# Altium footprint library footprints.PcbLib: 26 footprints (part 2 of 2)
Each footprint in its own frame and in the unit in brackets; x right, y up, seen from the top. Pads: shape width x height; smd on the part's side, far side on the other; paste and mask are expansions set on the pad; w line width, h text height; cw(c..) or ccw(c..) is an arc to the next point about the centre after c.
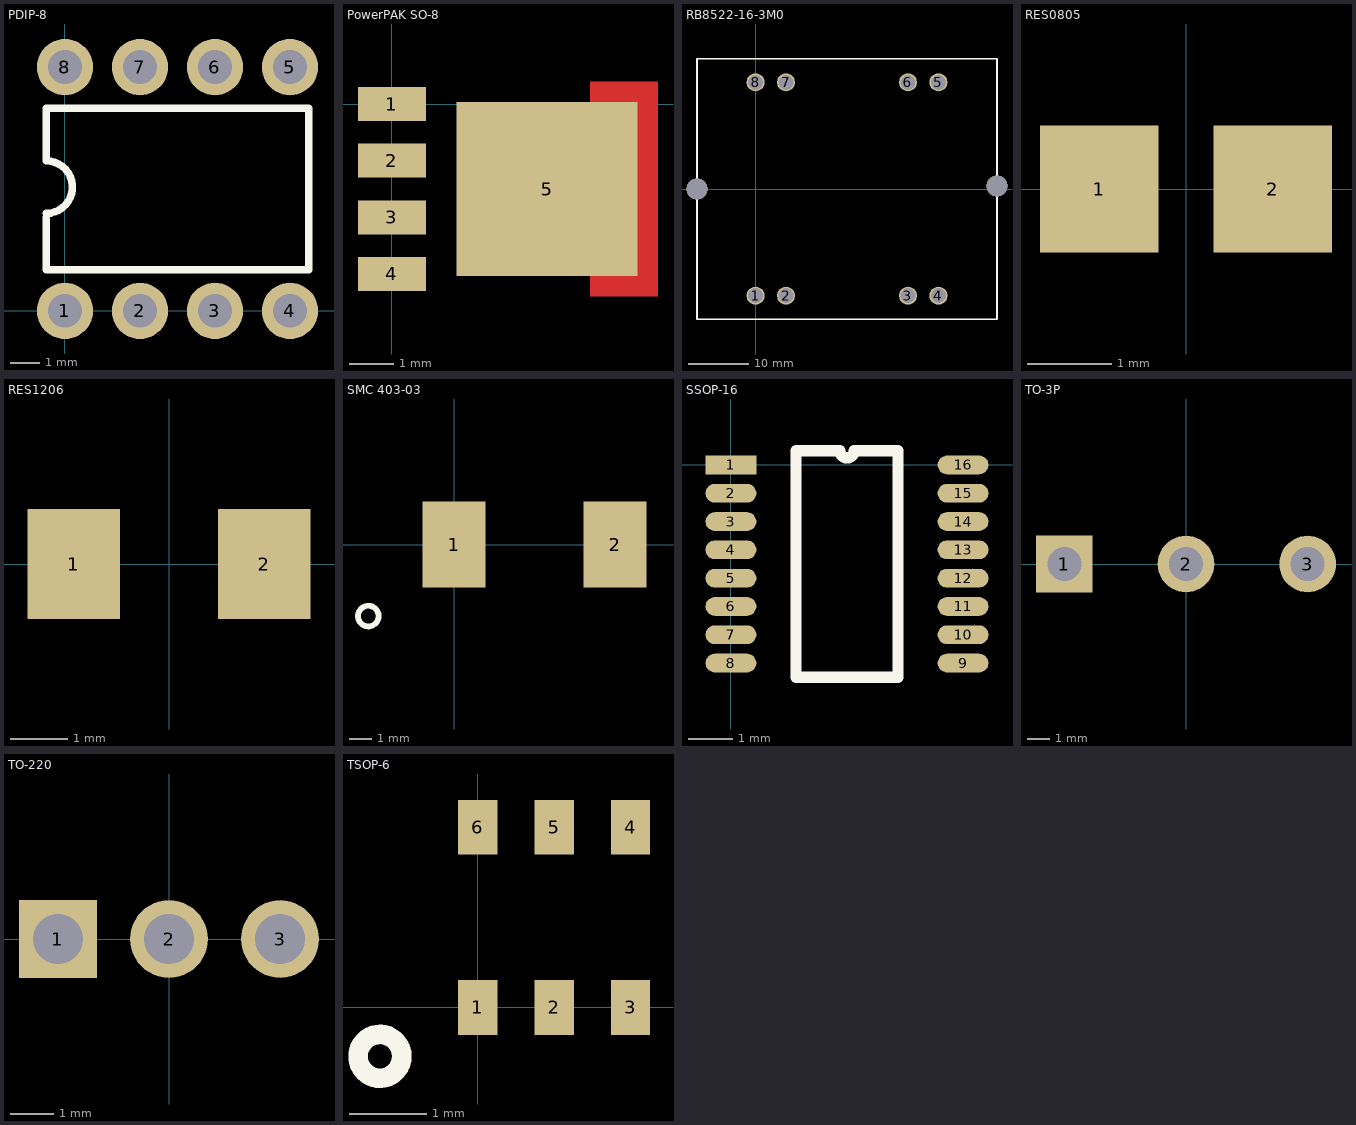
[diagram p1: the footprints below, top view; thin cyan lines are the x and y axes]

## PDIP-8 [mil]
height 210
pads (8):
  round 75 hole 45: 1(0,0) 2(100,0) 3(200,0) 4(300,0) 5(300,325) 6(200,325) 7(100,325) 8(0,325)
Top Overlay:
  lines w10: -25,125 -25,115 -25,55 325,55 325,270 -25,270 -25,200 cw(c-25,165) -25,130

## PowerPAK SO-8 [mil]
height 44
pads (5):
  rect 60x30 smd: 1(0,0) 2(0,-50) 3(0,-100) 4(0,-150)
  rect 160x154 smd: 5(137,-75)
Top Layer:
  rectangle: 175,-170 235,20

## RB8522-16-3M0 [mm] "Size 4"
height 58
pads (8):
  round 3 hole 2.5: 1(0,-17.78) 2(5.08,-17.78) 3(25.4,-17.78) 4(30.48,-17.78) 5(30.48,17.78) 6(25.4,17.78) 7(5.08,17.78) 8(0,17.78)
via -9.76,0 diameter 3.5 hole 3.5
via 40.24,0.508 diameter 3.5 hole 3.5
Top Overlay:
  lines w0.254: -9.76,-21.7 -9.76,21.7 40.24,21.7 40.24,-21.7 -9.76,-21.7

## RES0805 [mm]
pads (2):
  rect 1.4x1.5 smd: 1(-1.025,0) 2(1.025,0)

## RES1206 [mm]
pads (2):
  rect 1.6x1.9 smd: 1(-1.65,0) 2(1.65,0)

## SMC 403-03 [mil]
height 95
pads (2):
  rect 110x150 smd: 1(0,0) 2(281,0)
Top Overlay:
  circle w10: c-150,-125 r18.03

## SSOP-16 [mil]
pads (16):
  rect 45x16.5 smd: 1(0,0)
  oval 45x16.5 smd: 2(0,-25) 3(0,-50) 4(0,-75) 5(0,-100) 6(0,-125) 7(0,-150) 8(0,-175) 9(205,-175) 10(205,-150) 11(205,-125) 12(205,-100) 13(205,-75) 14(205,-50) 15(205,-25) 16(205,0)
Top Overlay:
  lines w10: 57.5,-187.5 147.5,-187.5 147.5,12.5 108.75,12.5 cw(c102.5,12.5) 96.25,12.5 57.5,12.5 57.5,-187.5
Top Solder:
  rectangle: 175,-190 235,15
  rectangle: -30,-190 30,15

## TO-3P [mil]
height 870
pads (3):
  rect 100x100 hole 60: 1(-215,0)
  round 100 hole 60: 2(0,0) 3(215,0)

## TO-220 [mil]
height 1340
pads (3):
  rect 70x70 hole 45: 1(-100,0)
  round 70 hole 45: 2(0,0) 3(100,0)

## TSOP-6 [mil] "JEDEC P/N: MO-193C"
height 43.31
pads (6):
  rect 20x28 smd: 1(0,0) 2(39,0) 3(78,0) 4(78,92) 5(39,92) 6(0,92)
Top Overlay:
  circle w10: c-50,-25 r11.18